# Altium footprint library YaoPCB.PCBLIB: 415 footprints (part 14 of 26)
Each footprint in its own frame and in the unit in brackets; x right, y up, seen from the top. Pads: shape width x height; smd on the part's side, far side on the other; paste and mask are expansions set on the pad; w line width, h text height; cw(c..) or ccw(c..) is an arc to the next point about the centre after c.
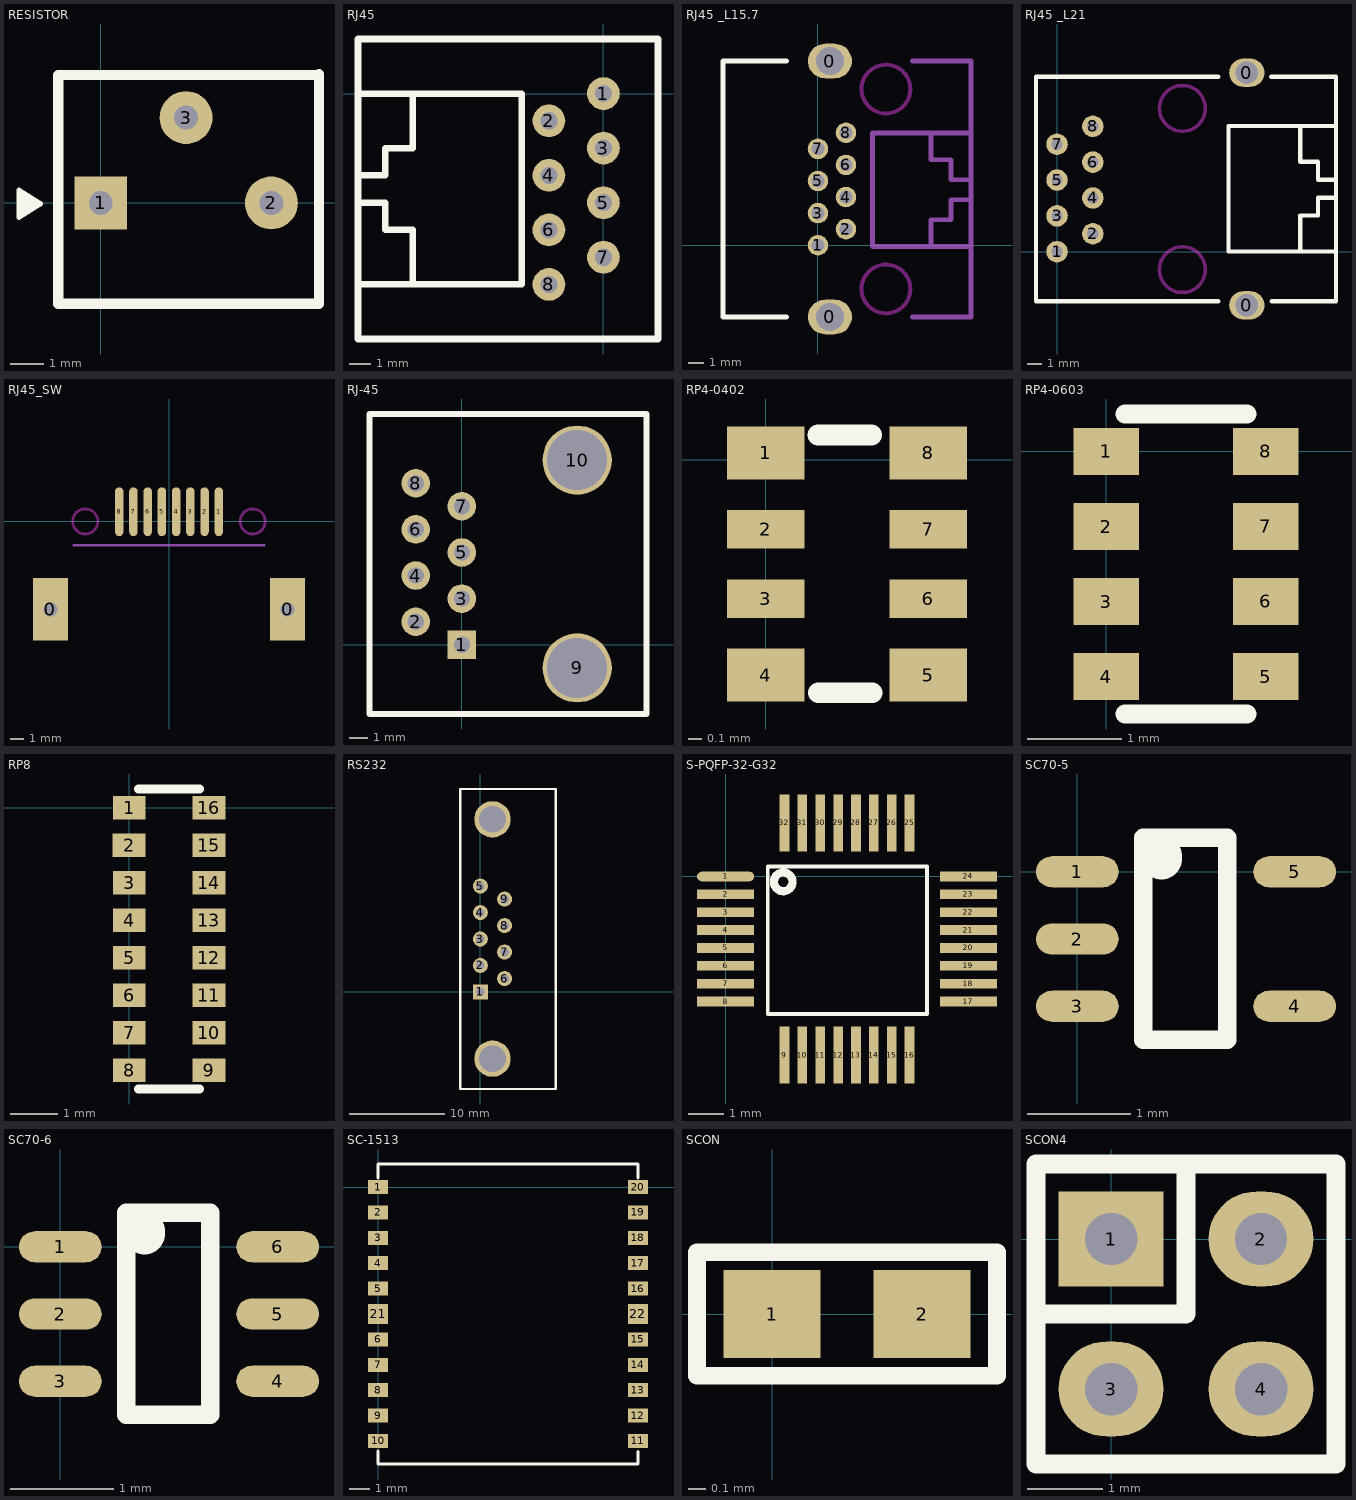
[diagram p13: the footprints below, top view; thin cyan lines are the x and y axes]

## RESISTOR [mil]
pads (3):
  rect 62x62 hole 28: 1(0,0)
  round 62 hole 28: 2(200,0) 3(100,100)
TopOverlay:
  lines w6: -82.9,-0.9 -75.9,-0.9 ; -95.9,-16.9 -70.9,-0.9 -95.9,15.1 -95.9,-16.9
  lines w10: -91.9,-8.9 -91.9,8.1 ; -84.9,-3.9 -84.9,3.1
  lines w12: 255.91,150 -50,150 -50,-118.11 255.91,-118.11 255.91,150.79

## RJ45 [mil]
pads (8):
  round 60 hole 31.5: 1(0,0) 2(-100,-50) 3(0,-100) 4(-100,-150) 5(0,-200) 6(-100,-250) 7(0,-300) 8(-100,-350)
TopOverlay:
  lines w12: -450,-350 -150,-350 -150,0 -450,0 ; -350,-350 -350,-250 -400,-250 -400,-200 -450,-200 -450,-150 -400,-150 -400,-100 -350,-100 -350,-50 -350,0 ; -450,-450 -450,-400 -450,100 50,100 100,100 100,-450 -450,-450

## RJ45 _L15.7 [mm]
pads (10):
  oval 2.8x2.2 hole 1.8: 0(0.76,-4.56) 0(0.76,11.7)
  round 1.3 hole 0.8: 1(0,0) 2(1.78,1.02) 3(0,2.04) 4(1.78,3.06) 5(0,4.08) 6(1.78,5.1) 7(0,6.12) 8(1.78,7.14)
TopOverlay:
  lines w0.305: -2,-4.56 -6.03,-4.56 -6.03,11.7 -2,11.7
KeepOutLayer:
  circle w0.25: c4.32,9.92 r1.55
  circle w0.25: c4.32,-2.78 r1.55
Mechanical15:
  lines w0.3: 6,-4.56 9.72,-4.56 ; 6,11.7 9.72,11.7
  lines w0.305: 7.18,-0.09 7.18,1.62 8.45,1.62 8.45,2.89 9.72,2.89 9.72,4.16 8.45,4.16 8.45,5.43 7.18,5.43 7.18,7.13 ; 9.72,-4.56 9.72,11.7 ; 9.72,-0.09 3.47,-0.09 3.47,7.13 9.72,7.13

## RJ45 _L21 [mm]
pads (10):
  oval 2.5x2 hole 1.6: 0(13.46,-3.8) 0(13.46,12.69)
  round 1.524 hole 0.8: 1(0,0) 2(2.54,1.27) 3(0,2.54) 4(2.54,3.81) 5(0,5.08) 6(2.54,6.35) 7(0,7.62) 8(2.54,8.89)
TopOverlay:
  lines w0.305: 11.43,-3.505 -1.49,-3.505 -1.49,12.395 11.43,12.395 ; 15.185,12.395 19.78,12.395 19.78,-3.505 15.215,-3.505 ; 17.24,0.02 17.24,1.29 17.24,2.56 18.51,2.56 18.51,3.83 19.78,3.83 19.78,5.1 18.51,5.1 18.51,6.37 17.24,6.37 17.24,8.91 ; 19.78,0.02 12.16,0.02 12.16,8.91 19.78,8.91
KeepOutLayer:
  circle w0.25: c8.89,10.16 r1.625
  circle w0.25: c8.89,-1.27 r1.625

## RJ45_SW [mm]
pads (10):
  rect 2.5x4.5 hole 1: 0(-8.5,-6.3) 0(8.5,-6.3)
  oval 0.6x3.5 smd: 1(3.57,0.7) 2(2.55,0.7) 3(1.53,0.7) 4(0.51,0.7) 5(-0.51,0.7) 6(-1.53,0.7) 7(-2.55,0.7) 8(-3.57,0.7)
KeepOutLayer:
  circle w0.2: c-6,0 r0.9
  circle w0.2: c6,0 r0.9
Mechanical15:
  lines w0.2: -6.8,-1.7 6.8,-1.7

## RJ-45 [mil]
pads (10):
  rect 62x62 hole 35: 1(0,0)
  round 62 hole 35: 2(-100,50) 3(0,100) 4(-100,150) 5(0,200) 6(-100,250) 7(0,300) 8(-100,350)
  round 150 hole 130: 9(250,-50) 10(250,400)
TopOverlay:
  lines w13: -200,-150 400,-150 400,500 -200,500 -200,-150

## RP4-0402 [mm]
pads (8):
  rect 0.56x0.38 smd: 1(0,0.05) 4(0,-1.55) 5(1.17,-1.55) 8(1.17,0.05)
  rect 0.56x0.28 smd: 2(0,-0.5) 3(0,-1) 6(1.17,-1) 7(1.17,-0.5)
TopOverlay:
  lines w0.15: 0.376,0.178 0.762,0.178 ; 0.381,-1.676 0.767,-1.676

## RP4-0603 [mm]
pads (8):
  rect 0.7x0.5 smd: 1(0,0) 2(0,-0.8) 3(0,-1.6) 4(0,-2.4) 5(1.7,-2.4) 6(1.7,-1.6) 7(1.7,-0.8) 8(1.7,0)
TopOverlay:
  lines w0.2: 0.2,-2.8 1.5,-2.8 ; 0.2,0.4 1.5,0.4

## RP8 [mm]
pads (16):
  rect 0.7x0.5 smd: 1(0,0) 2(0,-0.8) 3(0,-1.6) 4(0,-2.4) 5(0,-3.2) 6(0,-4) 7(0,-4.8) 8(0,-5.6) 9(1.7,-5.6) 10(1.7,-4.8) 11(1.7,-4) 12(1.7,-3.2) 13(1.7,-2.4) 14(1.7,-1.6) 15(1.7,-0.8) 16(1.7,0)
TopOverlay:
  lines w0.2: 0.2,-6 1.5,-6 ; 0.2,0.4 1.5,0.4

## RS232 [mil]
pads (13):
  round 1 all layers, no hole: 0(50,-275) 0(55,711)
  rect 62x62 hole 35: 1(0,0)
  round 62 hole 35: 2(0,109) 3(0,218) 4(0,327) 5(0,436) 6(100,55) 7(100,164) 8(100,273) 9(100,382)
  round 150 hole 110: ""(50,-275) ""(50,711)
TopOverlay:
  lines w10: -82,-400 310,-400 310,836 -82,836 -82,-400

## S-PQFP-32-G32 [mm]
pads (32):
  oval 1.6x0.27 smd: 1(0,0)
  rect 1.6x0.27 smd: 2(0,-0.5) 3(0,-1) 4(0,-1.5) 5(0,-2) 6(0,-2.5) 7(0,-3) 8(0,-3.5) 17(6.8,-3.5) 18(6.8,-3) 19(6.8,-2.5) 20(6.8,-2) 21(6.8,-1.5) 22(6.8,-1) 23(6.8,-0.5) 24(6.8,0)
  rect 0.27x1.6 smd: 9(1.65,-5) 10(2.15,-5) 11(2.65,-5) 12(3.15,-5) 13(3.65,-5) 14(4.15,-5) 15(4.65,-5) 16(5.15,-5) 25(5.15,1.5) 26(4.65,1.5) 27(4.15,1.5) 28(3.65,1.5) 29(3.15,1.5) 30(2.65,1.5) 31(2.15,1.5) 32(1.65,1.5)
TopOverlay:
  circle w0.23: c1.614,-0.15 r0.261
  lines w0.102: 1.18,-3.85 1.18,0.28 5.64,0.28 5.64,-3.85 1.18,-3.85

## SC70-5 [mm]
pads (5):
  oval 0.8x0.3 smd: 1(0,0) 2(0,-0.65) 3(0,-1.3) 4(2.1,-1.3) 5(2.1,0)
TopOverlay:
  lines w0.178: 0.635,-1.626 0.635,0.33 1.448,0.33 1.448,-1.626 0.635,-1.626
  lines w0.4: 0.813,0.127 0.813,0.152

## SC70-6 [mm]
pads (6):
  oval 0.8x0.3 smd: 1(0,0) 2(0,-0.65) 3(0,-1.3) 4(2.1,-1.3) 5(2.1,-0.65) 6(2.1,0)
TopOverlay:
  lines w0.178: 0.635,-1.626 1.448,-1.626 1.448,0.33 0.635,0.33 0.635,-1.626
  lines w0.4: 0.813,0.127 0.813,0.152

## SC-1513 [mm]
pads (22):
  rect 1x0.7 smd: 1(0,0) 2(0,-1.27) 3(0,-2.54) 4(0,-3.81) 5(0,-5.08) 6(0,-7.62) 7(0,-8.89) 8(0,-10.16) 9(0,-11.43) 10(0,-12.7) 11(13,-12.7) 12(13,-11.43) 13(13,-10.16) 14(13,-8.89) 15(13,-7.62) 16(13,-5.08) 17(13,-3.81) 18(13,-2.54) 19(13,-1.27) 20(13,0)
  rect 1x1 smd: 21(0,-6.35) 22(13,-6.35)
TopOverlay:
  lines w0.127: 0,-13.2 0,-13.85 13,-13.85 13,-13.225 ; 0,0.45 0,1.15 13,1.15 13,0.45

## SCON [mil]
pads (2):
  rect 22x20 smd: 1(0,0) 2(34,0)
TopOverlay:
  lines w4: -17,-14 51,-14 51,14 -17,14 -17,-14

## SCON4 [mm]
pads (4):
  rect 1.397x1.27 hole 0.7: 1(0,0)
  oval 1.397x1.27 hole 0.7: 2(2,0) 3(0,-2) 4(2,-2)
TopOverlay:
  lines w0.254: -1,-1 1,-1 1,1 ; -1,-3 3,-3 3,1 -1,1 -1,-3